# Altium footprint library USB_soket.PcbLib: 1 footprints
Each footprint in its own frame and in the unit in brackets; x right, y up, seen from the top. Pads: shape width x height; smd on the part's side, far side on the other; paste and mask are expansions set on the pad; w line width, h text height; cw(c..) or ccw(c..) is an arc to the next point about the centre after c.
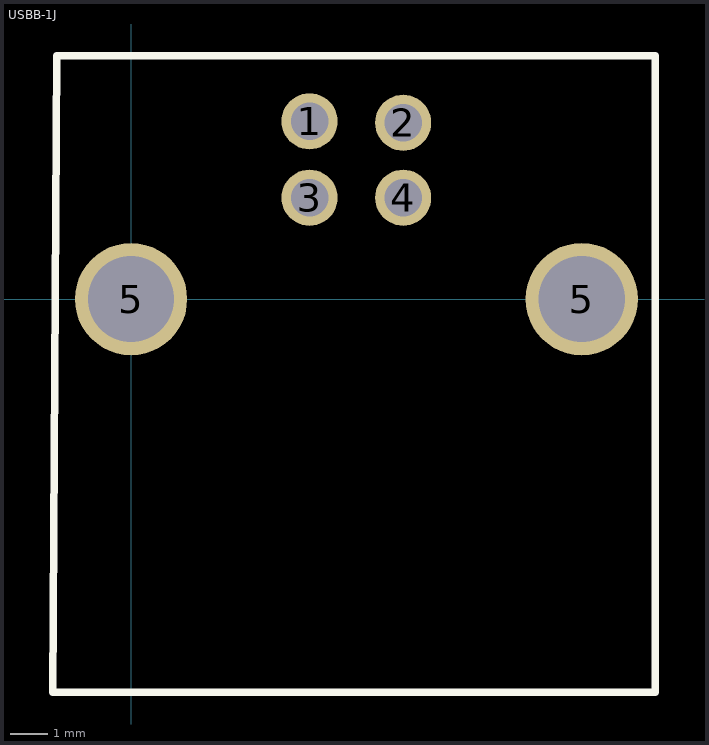
[diagram p0: the footprint, top view; thin cyan lines are the x and y axes]

## USBB-1J [mm]
pads (6):
  round 1.5 hole 1: 1(4.77,4.75) 2(7.27,4.71) 3(4.77,2.71) 4(7.27,2.71)
  round 3 hole 2.3: 5(0,0) 5(12.04,0)
Top Overlay:
  lines w0.2: -2.087,-10.5 -1.987,6.5 14,6.5 14,-10.5 -2.087,-10.5
3D body: height 10.7, standoff -3.95, extent -1.43,-10.302 13.47,6.198